# EAGLE library part XILINX_JTAG (library ParallellaJtag)
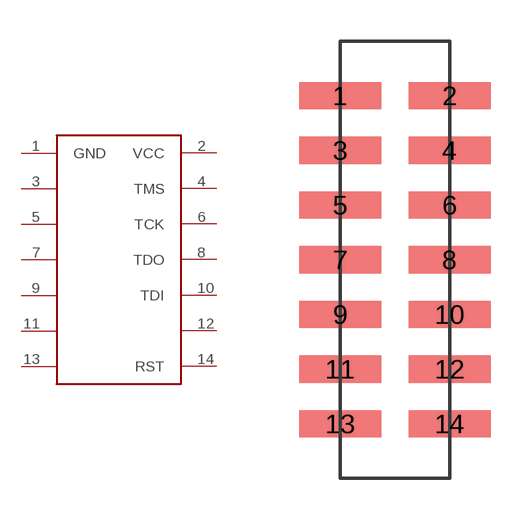
[diagram p0: symbol with the pads of XLINX_JTAG; footprint XLINX_JTAG]

Designator prefix -

## XILINX_JTAG  [XLINX_JTAG]
1  GND  pwr
2  VCC  pwr
3  GND  pwr
4  TMS  out
5  GND  pwr
6  TCK  out
7  GND  pwr
8  TDO  out
9  GND  pwr
10  TDI  in
11  GND  pwr
12  NC  nc
13  GND  pwr
14  RST  out

## Footprint XLINX_JTAG (pad centres in mm)
smd 3 x 1: 1 0,12; 2 4,12; 3 0,10; 4 4,10; 5 0,8; 6 4,8; 7 0,6; 8 4,6; 9 0,4; 10 4,4; 11 0,2; 12 4,2; 13 0,0; 14 4,0